# Altium footprint library 二极管-整流桥.PcbLib: 9 footprints
Each footprint in its own frame and in the unit in brackets; x right, y up, seen from the top. Pads: shape width x height; smd on the part's side, far side on the other; paste and mask are expansions set on the pad; w line width, h text height; cw(c..) or ccw(c..) is an arc to the next point about the centre after c.
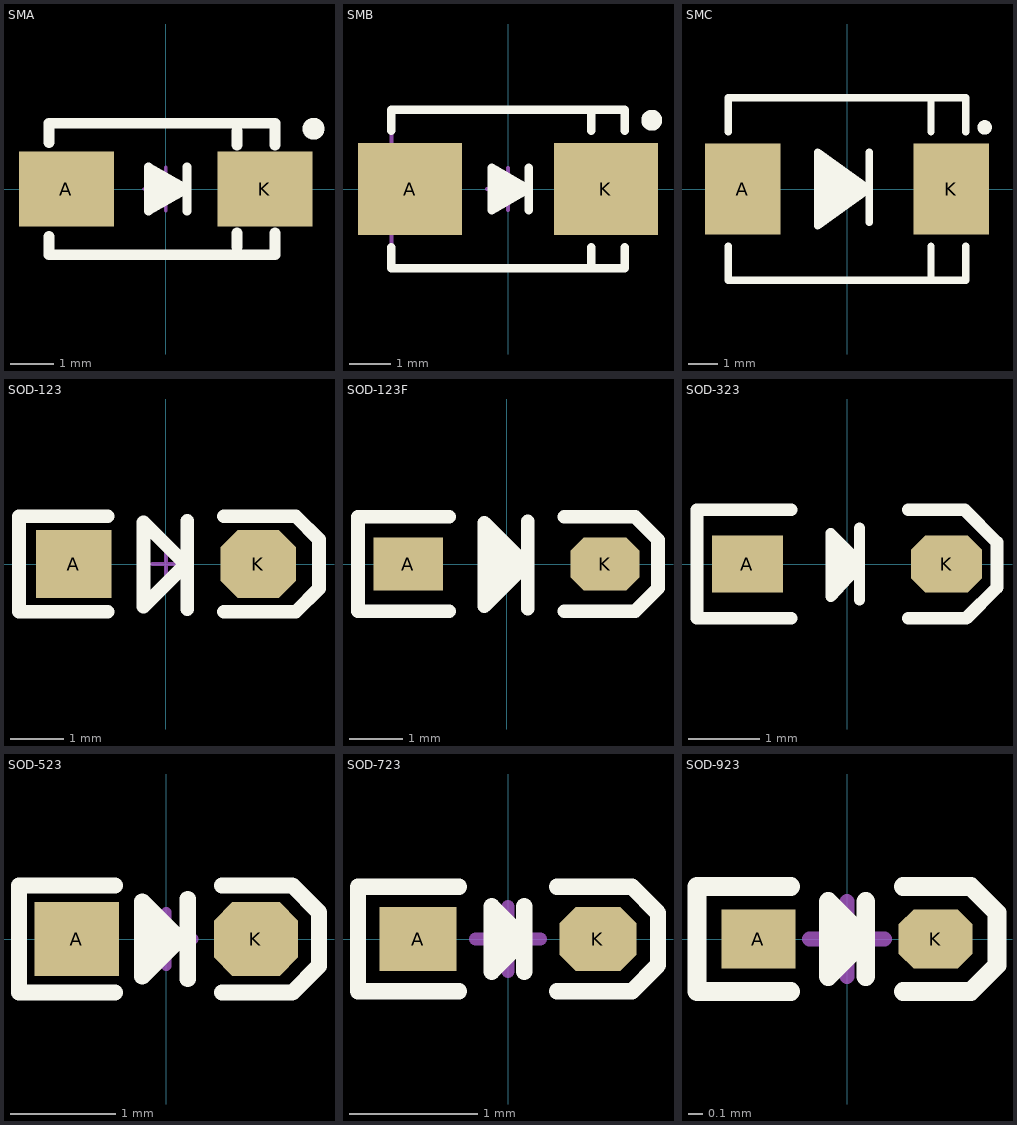
[diagram p0: the footprints below, top view; thin cyan lines are the x and y axes]

## SMA [mm] "4.5x2.6*2.2mm（长宽高，不包括引脚）"
height 2.54
pads (2):
  rect 2.2x1.75 smd: A(-2.3,0) K(2.3,0)
Top Overlay:
  circle w0.254: c3.429,1.397 r0.127
  lines w0.203: 0.494,-0.508 0.494,0.508 ; -0.395,-0.508 -0.395,0.508 0.494,0 -0.395,-0.508
  lines w0.254: -2.7,-1.105 -2.7,-1.524 2.54,-1.524 2.54,-1.016 ; -2.7,1.08 -2.7,1.524 2.54,1.524 2.54,1.016 ; -0.33,0.305 0.305,0 -0.254,-0.305 -0.254,0.051 0.023,0 ; 1.651,-1.35 1.651,-1.016 ; 1.651,1.016 1.651,1.35
Mechanical 15:
  lines w0.076: -0.508,0 0.494,0 ; 0,-0.508 0,0.508
3D body "SMA.STEP": height 2.15, standoff 0.04, extent -2.528,-1.3 2.575,1.3

## SMB [mm] "4.7*3.9*2.2mm(长宽高，不包括引脚）"
height 2.4
pads (2):
  rect 2.5x2.2 smd: A(-2.35,0) K(2.35,0)
Top Overlay:
  circle w0.25: c3.45,1.65 r0.125
  lines w0.2: -2.8,-1.4 -2.8,-1.9 2.8,-1.9 2.8,-1.4 ; -2.8,1.4 -2.8,1.9 2.8,1.9 2.8,1.4 ; 2,-1.9 2,-1.4 ; 2,1.4 2,1.9
  lines w0.203: 0.5,-0.508 0.5,0.508 ; -0.389,-0.508 0.5,0 -0.389,0.508 -0.389,-0.508
  lines w0.254: -0.254,0 0.279,0 ; 0.279,0 -0.229,-0.305 -0.229,0.279 0.279,0
Mechanical 13:
  lines w0.1: 2.8,-1.9 -2.8,-1.9 -2.8,1.9 2.8,1.9
Mechanical 15:
  lines w0.1: -0.5,0 0.5,0 ; 0,-0.5 0,0.5
3D body "SMB.STEP": height 2.35, standoff 0.04, extent -2.629,-1.8 2.675,1.8

## SMC [mm] "7.1x5.9*2.3mm（长宽高，不包括引脚）"
height 2.41
pads (2):
  rect 2.6x3.15 smd: A(-3.6,0) K(3.6,0)
Top Overlay:
  circle w0.25: c4.75,2.125 r0.125
  lines w0.254: -4.1,-1.975 -4.1,-3.15 4.1,-3.15 4.1,-1.975 ; -4.1,1.975 -4.1,3.15 4.1,3.15 4.1,1.975 ; -0.889,0.991 0.5,0 -0.889,-0.965 -0.914,0.762 0.229,0 -0.711,-0.66 -0.762,0.483 0,-0.051 -0.584,-0.33 -0.635,0.152 -0.229,-0.051 -0.737,-0.127 ; 0.762,-1.143 0.762,1.27 ; 2.9,-3.15 2.9,-1.975 ; 2.9,1.975 2.9,3.15 ; -1.016,-1.27 0.762,0 -1.016,1.27 -1.016,-1.27
Mechanical 13:
  lines w0.1: -4.065,-3.11 4.065,-3.11 ; -4.065,3.11 4.065,3.11
Mechanical 15:
  lines w0.1: -0.5,0 0.5,0 ; 0,-0.5 0,0.5
3D body "SMC.STEP": height 2.45, standoff 0.03, extent -3.953,-2.9 3.953,2.9

## SOD-123 [mil] "2.7x1.6X1.1mm（长宽高，不包括引脚）"
pads (2):
  rect 55x50 smd: A(-67.5,0)
  oct 55x50 smd: K(67.5,0)
Top Overlay:
  lines w10: -42.5,-35 -107.5,-35 -107.5,35 -42.5,35 ; 14,-0.8 -16.4,-31.2 -16.4,30.5 15.6,-1.5 ; 15.6,-33.1 15.6,31.7 ; 42.5,-35 95,-35 112,-18 112,18 95,35 42.5,35
Mechanical 15:
  lines w3: -10,0 10,0 ; 0,-10 0,10
3D body "SOD-123.STEP": height 48.03, standoff 0, extent -72.84,-31.5 72.83,31.5

## SOD-123F [mm] "2.7x1.6X1.1mm（长宽高，不包括引脚）"
pads (2):
  rect 1.3x1 smd: A(-1.85,0)
  oct 1.3x1 smd: K(1.85,0)
Top Overlay:
  lines w0.254: -1.079,-0.889 -2.794,-0.889 -2.794,0.889 -1.079,0.889 ; -0.254,0.559 -0.229,-0.432 0.254,0 0,0.254 0,0 0,-0.254 ; 0.356,-0.02 -0.417,-0.792 -0.417,0.775 0.396,-0.038 ; 0.396,-0.841 0.396,0.805 ; 1.079,-0.889 2.413,-0.889 2.845,-0.457 2.845,0.457 2.413,0.889 1.079,0.889
Mechanical 15:
  lines w0.076: -0.254,0 0.254,0 ; 0,-0.254 0,0.254
3D body "SOD-123F.STEP": height 1.15, standoff 0.04, extent -1.9,-0.8 1.9,0.8

## SOD-323 [mm] "1.8x1.3X0.9mm（长宽高，不包括引脚）"
pads (2):
  rect 1x0.8 smd: A(-1.4,0)
  oct 1x0.8 smd: K(1.4,0)
Top Overlay:
  lines w0.152: 0.178,-0.508 0.178,0.508 ; 0.178,-0.025 -0.229,-0.457 -0.229,0.432 0.178,0.025
  lines w0.178: -0.787,-0.762 -2.108,-0.762 -2.108,0.762 -0.787,0.762 ; 0.864,-0.762 1.676,-0.762 2.108,-0.33 2.108,0.305 1.651,0.762 0.864,0.762
  lines w0.254: -0.127,0.254 -0.152,-0.178 0.025,-0.025 -0.025,0.127
Mechanical 15:
  lines w0.076: -0.229,0 0.178,0 ; 0,-0.254 0,0.254
3D body "SOD-323.STEP": height 1, standoff 0.04, extent -1.337,-0.631 1.311,0.669

## SOD-523 [mm] "1.2x0.8X0.6mm（长宽高，不包括引脚）"
pads (2):
  rect 0.8x0.7 smd: A(-0.85,0)
  oct 0.8x0.7 smd: K(0.85,0)
Top Overlay:
  rectangle: -0.178,-0.178 0,0.178
  lines w0.152: -0.488,-0.508 -1.397,-0.508 -1.397,0.508 -0.488,0.508 ; -0.127,0 0.127,0 ; 0.203,-0.381 0.203,0.381 ; 0.528,-0.508 1.194,-0.508 1.448,-0.254 1.448,0.254 1.194,0.508 0.528,0.508 ; 0.127,0 -0.229,-0.356 -0.229,0.356 0.127,0
Mechanical 15:
  lines w0.1: -0.254,0 0.254,0 ; 0,-0.254 0,0.254
3D body "SOD-523.STEP": height 0.65, standoff 0.05, extent -0.8,-0.4 0.8,0.4

## SOD-723 [mm] "1x0.6X0.5mm（长宽高，不包括引脚）"
pads (2):
  rect 0.6x0.5 smd: A(-0.7,0)
  oct 0.6x0.5 smd: K(0.7,0)
Top Overlay:
  lines w0.127: -0.381,-0.406 -1.168,-0.406 -1.168,0.406 -0.381,0.406 ; 0,-0.127 0,0.127 -0.127,0.254 ; 0.127,-0.254 0.127,0.254 ; 0.381,-0.406 0.965,-0.406 1.168,-0.203 1.168,0.203 0.965,0.406 0.381,0.406 ; -0.127,0.254 0.127,0 -0.127,-0.254 -0.127,0.254
Mechanical 15:
  lines w0.1: -0.254,0 0.254,0 ; 0,-0.254 0,0.254
3D body "SOD-723.STEP": height 0.53, standoff 0.03, extent -0.7,-0.3 0.7,0.3

## SOD-923 [mm] "0.8x0.6X0.4mm（长宽高，不包括引脚）"
pads (2):
  rect 0.5x0.4 smd: A(-0.6,0)
  oct 0.5x0.4 smd: K(0.6,0)
Top Overlay:
  lines w0.127: -0.381,-0.356 -1.016,-0.356 -1.016,0.356 -0.381,0.356 ; 0,-0.127 0,0.127 -0.127,0.254 ; 0.127,-0.254 0.127,0.254 ; 0.381,-0.356 0.838,-0.356 1.016,-0.178 1.016,0.178 0.838,0.356 0.381,0.356 ; -0.127,0.254 -0.127,-0.254 0.127,0 -0.127,0.254
Mechanical 15:
  lines w0.1: -0.254,0 0.254,0 ; 0,-0.254 0,0.254
3D body "SOD-923.STEP": height 0.43, standoff 0.03, extent -0.5,-0.3 0.5,0.3